# Altium footprint library L-SPE-0805_MC_EXC34.PcbLib: 1 footprints
Each footprint in its own frame and in the unit in brackets; x right, y up, seen from the top. Pads: shape width x height; smd on the part's side, far side on the other; paste and mask are expansions set on the pad; w line width, h text height; cw(c..) or ccw(c..) is an arc to the next point about the centre after c.
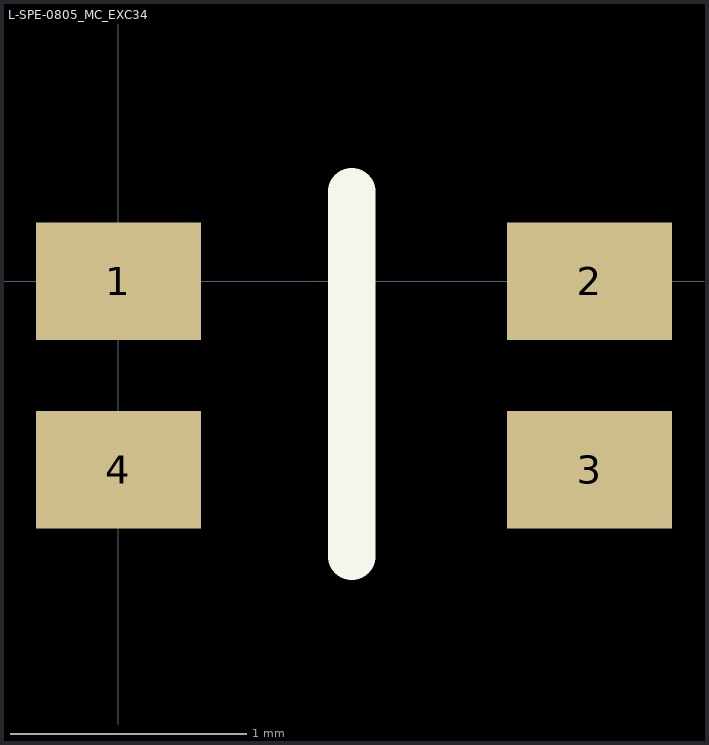
[diagram p0: the footprint, top view; thin cyan lines are the x and y axes]

## L-SPE-0805_MC_EXC34 [mm]
pads (4):
  rect 0.7x0.5 smd: 1(0,0) 2(2,0) 3(2,-0.8) 4(0,-0.8)
Top Overlay:
  lines w0.2: 0.991,-1.168 0.991,0.381
3D body: height 0.5, standoff 0, extent 0,-1.194 2.007,0.381